# Altium schematic symbol library Schlib1.SchLib: 8 symbols
Pins are listed as number, name and electrical type; pins without a type are passive.

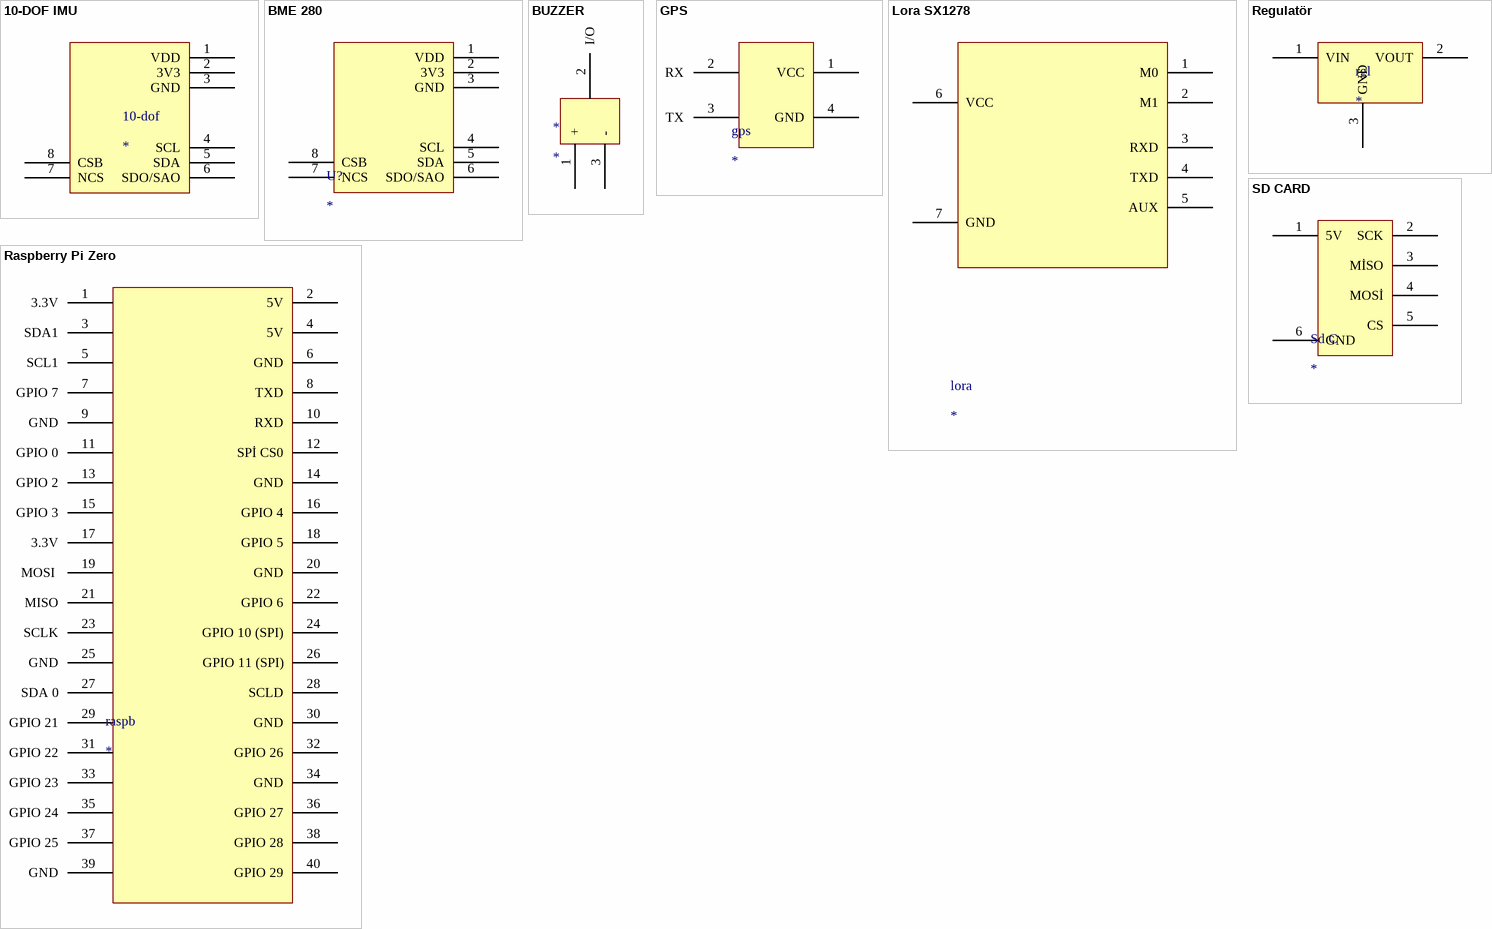
[diagram p0: symbols 10-DOF IMU to SD CARD]

## 10-DOF IMU
designator 10-dof
footprint 10-DOF IMU
pins: 1 VDD, 2 3V3, 3 GND, 4 SCL, 5 SDA, 6 SDO/SAO, 7 NCS, 8 CSB

## BME 280
designator U?
Bme 280 sensörü
footprint BME280
pins: 1 VDD, 2 3V3, 3 GND, 4 SCL, 5 SDA, 6 SDO/SAO, 7 NCS, 8 CSB

## BUZZER
designator *
footprint BUZZER
pins: 1 +, 2 I/O, 3 -

## GPS
designator gps
footprint GPS
pins: 1 VCC, 2 RX, 3 TX, 4 GND

## Lora SX1278
designator lora
footprint Lora SX1278
pins: 1 M0, 2 M1, 3 RXD, 4 TXD, 5 AUX, 6 VCC, 7 GND

## Raspberry Pi Zero
designator raspb
footprint Raspberry Pi Zero
pins: 1 3.3V, 2 5V, 3 SDA1, 4 5V, 5 SCL1, 6 GND, 7 GPIO 7, 8 TXD, 9 GND, 10 RXD, 11 GPIO 0, 12 SPİ CS0, 13 GPIO 2, 14 GND, 15 GPIO 3, 16 GPIO 4, 17 3.3V, 18 GPIO 5, 19 MOSI , 20 GND, 21 MISO, 22 GPIO 6, 23 SCLK, 24 GPIO 10 (SPI), 25 GND, 26 GPIO 11 (SPI), 27 SDA 0, 28 SCLD, 29 GPIO 21, 30 GND, 31 GPIO 22, 32 GPIO 26, 33 GPIO 23, 34 GND, 35 GPIO 24, 36 GPIO 27, 37 GPIO 25, 38 GPIO 28, 39 GND, 40 GPIO 29

## Regulatör
designator rgl
footprint 5V REGULATOR LM2596
pins: 1 VIN, 2 VOUT, 3 GND

## SD CARD
designator Sd C
footprint SD CARD
pins: 1 5V, 2 SCK, 3 MİSO, 4 MOSİ, 5 CS, 6 GND